# Altium schematic symbol library SCH - POWER - SWITCHMODE - TI TPS65560_RGT_16.SchLib: 1 symbol
Pins are listed as number, name and electrical type; pins without a type are passive.

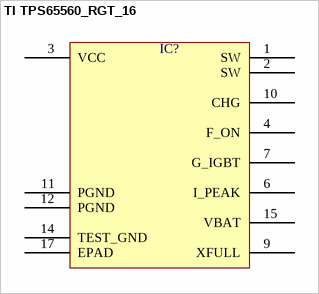
[diagram p0: symbol TI TPS65560_RGT_16]

## TI TPS65560_RGT_16
designator IC?  (value not drawn)
pins: 1 SW, 2 SW, 3 VCC, 4 F_ON, 6 I_PEAK, 7 G_IGBT, 9 XFULL, 10 CHG, 11 PGND, 12 PGND, 14 TEST_GND, 15 VBAT, 17 EPAD